# Altium schematic symbol library Atmel Microcontroller 8-Bit megaAVR.SchLib: 324 symbols (part 5 of 16)
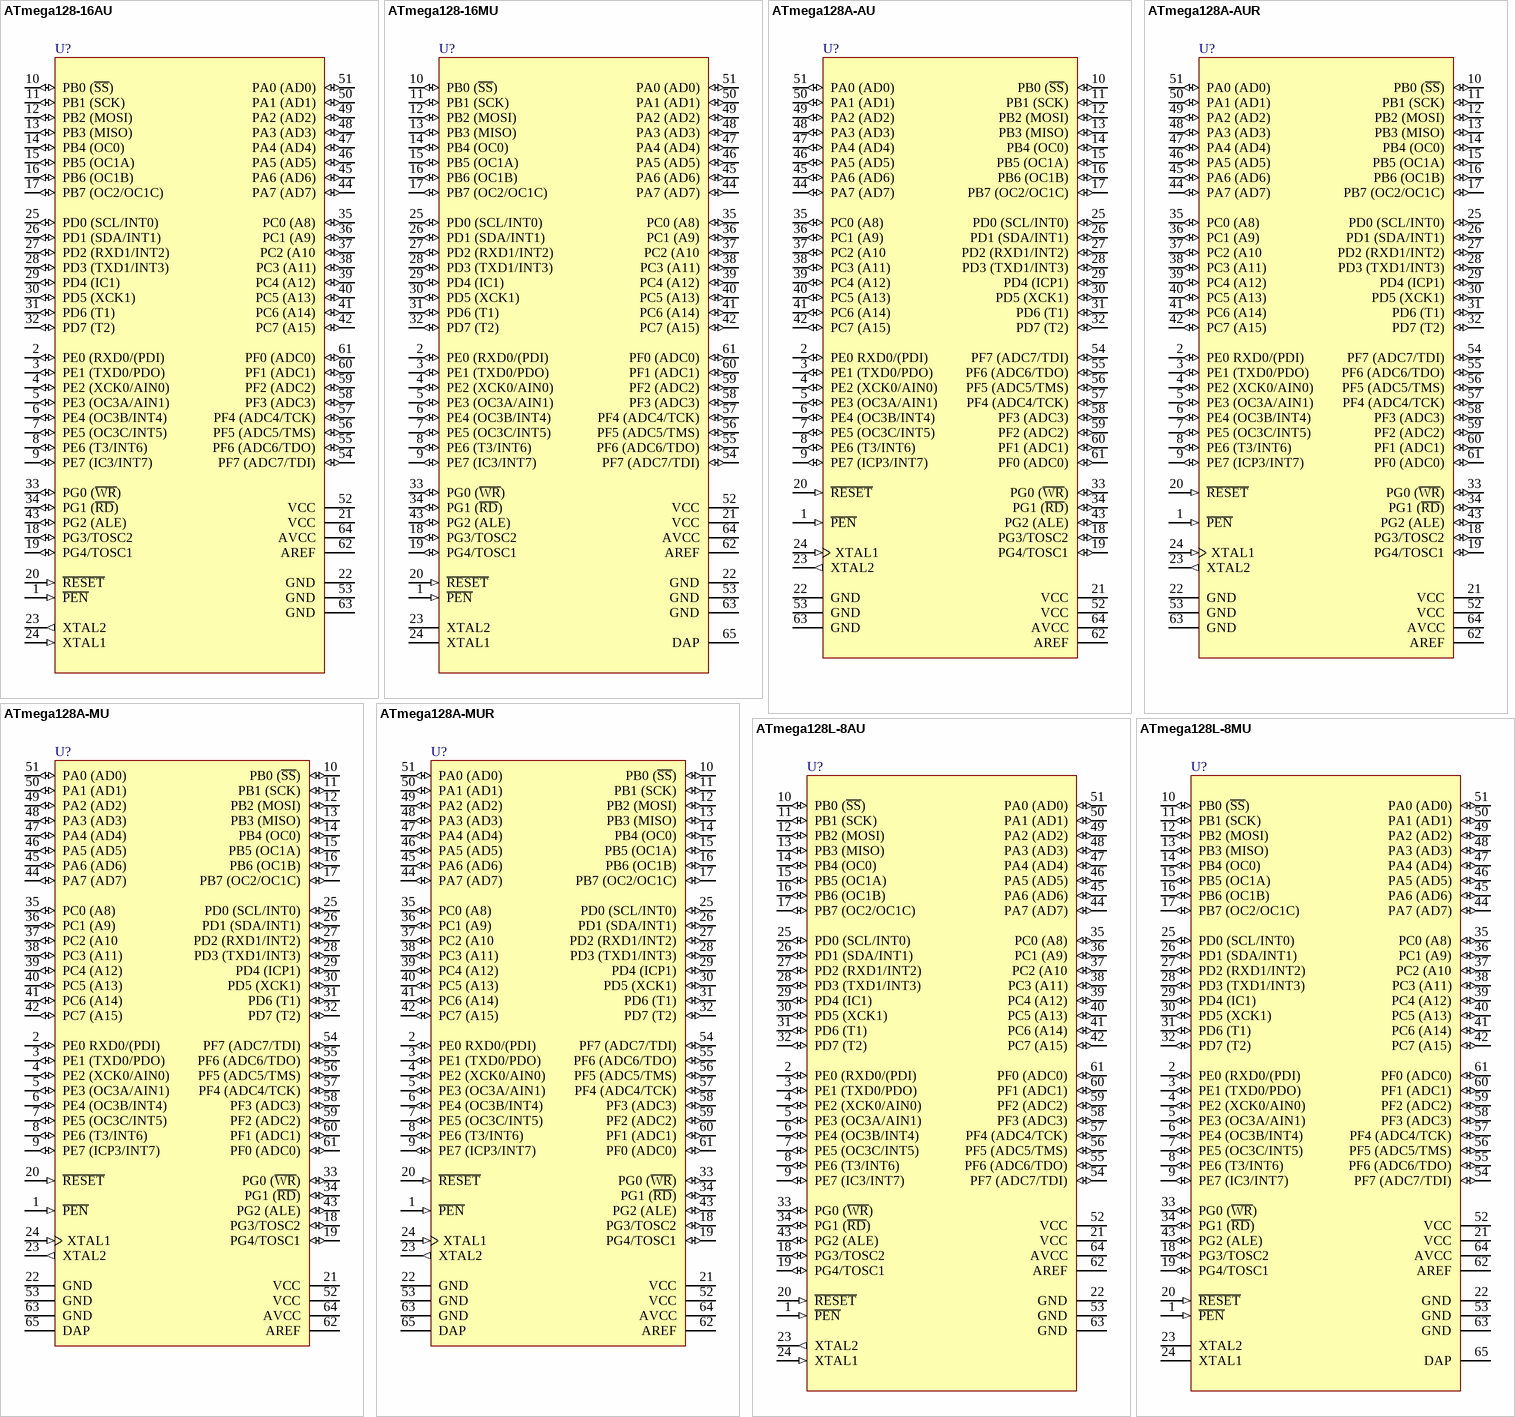
[diagram p46: symbols ATmega128-16AU to ATmega128L-8MU]

## ATmega128-16AU
designator U?
8-bit AVR Microcontroller, 4.5-5.5V, 128KB Flash, 4KB EEPROM, 4KB SRAM, 64-pin TQFP, Industrial Grade (-40°C to 85°C), Pb-Free; Published: 1-Apr-2010; DatasheetVersion: revS, Jul-2009; PackageVersion: revB, Oct-2001; PackageReference: 64A; Publisher: Altium Limited; PackageDescription: 64-Pin Plastic Thin Profile Quad Flat Pack, 14 x 14 x 1.0 mm Body, 0.8 mm Pitch (TQFP); Supplier 1: Digi-Key; Supplier Part Number 1: ATMEGA128-16AU-ND; Supplier 2: Farnell; Supplier Part Number 2: 9171118; Supplier 3: Farnell; Supplier Part Number 3: 1661737; Supplier 4: Mouser; Supplier Part Number 4: 556-ATMEGA128-16AU; Code_JEDEC: MS-026-AEB; ComponentLink1Description: Manufacturer Link; ComponentLink1URL: http://www.atmel.com/products/avr/default.asp?; ComponentLink2Description: ATmega128(L) Datasheet; ComponentLink2URL: http://www.atmel.com/dyn/resources/prod_documents/doc2467.pdf; ComponentLink3Description: ATmega128(L) Summary; ComponentLink3URL: http://www.atmel.com/dyn/resources/prod_documents/2467S.pdf; ComponentLink4Description: Atmel.com Home; ComponentLink4URL: http://www.atmel.com
footprint 64A_N (Thin QFP, 64-Leads, Body 14x14mm, Pitch 0.8mm, IPC Medium Density)
footprint 64A_L (Thin QFP, 64-Leads, Body 14x14mm, Pitch 0.8mm, IPC High Density)
footprint 64A_M (Thin QFP, 64-Leads, Body 14x14mm, Pitch 0.8mm, IPC Low Density)
pins: 1 ~{PEN} (in), 2 PE0 (RXD0/(PDI) (io), 3 PE1 (TXD0/PDO) (io), 4 PE2 (XCK0/AIN0) (io), 5 PE3 (OC3A/AIN1) (io), 6 PE4 (OC3B/INT4) (io), 7 PE5 (OC3C/INT5) (io), 8 PE6 (T3/INT6) (io), 9 PE7 (IC3/INT7) (io), 10 PB0 (~{SS}) (io), 11 PB1 (SCK) (io), 12 PB2 (MOSI) (io), 13 PB3 (MISO) (io), 14 PB4 (OC0) (io), 15 PB5 (OC1A) (io), 16 PB6 (OC1B) (io), 17 PB7 (OC2/OC1C) (io), 18 PG3/TOSC2 (io), 19 PG4/TOSC1 (io), 20 ~{RESET} (in), 21 VCC (power), 22 GND (power), 23 XTAL2 (out), 24 XTAL1 (in), 25 PD0 (SCL/INT0) (io), 26 PD1 (SDA/INT1) (io), 27 PD2 (RXD1/INT2) (io), 28 PD3 (TXD1/INT3) (io), 29 PD4 (IC1) (io), 30 PD5 (XCK1) (io), 31 PD6 (T1) (io), 32 PD7 (T2) (io), 33 PG0 (~{WR}) (io), 34 PG1 (~{RD}) (io), 35 PC0 (A8) (io), 36 PC1 (A9) (io), 37 PC2 (A10 (io), 38 PC3 (A11) (io), 39 PC4 (A12) (io), 40 PC5 (A13) (io), 41 PC6 (A14) (io), 42 PC7 (A15) (io), 43 PG2 (ALE) (io), 44 PA7 (AD7) (io), 45 PA6 (AD6) (io), 46 PA5 (AD5) (io), 47 PA4 (AD4) (io), 48 PA3 (AD3) (io), 49 PA2 (AD2) (io), 50 PA1 (AD1) (io), 51 PA0 (AD0) (io), 52 VCC (power), 53 GND (power), 54 PF7 (ADC7/TDI) (io), 55 PF6 (ADC6/TDO) (io), 56 PF5 (ADC5/TMS) (io), 57 PF4 (ADC4/TCK) (io), 58 PF3 (ADC3) (io), 59 PF2 (ADC2) (io), 60 PF1 (ADC1) (io), 61 PF0 (ADC0) (io), 62 AREF, 63 GND (power), 64 AVCC (power)

## ATmega128-16MU
designator U?
8-bit AVR Microcontroller, 4.5-5.5V, 128KB Flash, 4KB EEPROM, 4KB SRAM, 64-pin MLF, Industrial Grade (-40°C to 85°C), Pb-Free; Published: 1-Apr-2010; DatasheetVersion: revS, Jul-2009; PackageVersion: revG, May-2006; PackageReference: 64M1; Publisher: Altium Limited; PackageDescription: 64-Pin Micro Lead Frame Package (MLF), 9 x 9 x 1.0 mm Body, 0.5 mm Pitch, 5.40 mm Exposed Pad; Supplier 1: Digi-Key; Supplier Part Number 1: ATMEGA128-16MU-ND; Supplier 2: Farnell; Supplier Part Number 2: 1455093; Supplier 3: Mouser; Supplier Part Number 3: 556-ATMEGA128-16MU; Code_JEDEC: MO-220-VMMD; ComponentLink1Description: Manufacturer Link; ComponentLink1URL: http://www.atmel.com/products/avr/default.asp?; ComponentLink2Description: ATmega128(L) Datasheet; ComponentLink2URL: http://www.atmel.com/dyn/resources/prod_documents/doc2467.pdf; ComponentLink3Description: ATmega128(L) Summary; ComponentLink3URL: http://www.atmel.com/dyn/resources/prod_documents/2467S.pdf; ComponentLink4Description: Atmel.com Home; ComponentLink4URL: http://www.atmel.com
footprint 64M1_N (QFN, 64-Leads, Body 9x9mm, Pitch 0.5mm, IPC Medium Density)
footprint 64M1_L (QFN, 64-Leads, Body 9x9mm, Pitch 0.5mm, IPC High Density)
footprint 64M1_M (QFN, 64-Leads, Body 9x9mm, Pitch 0.5mm, IPC Low Density)
pins: 1 ~{PEN} (in), 2 PE0 (RXD0/(PDI) (io), 3 PE1 (TXD0/PDO) (io), 4 PE2 (XCK0/AIN0) (io), 5 PE3 (OC3A/AIN1) (io), 6 PE4 (OC3B/INT4) (io), 7 PE5 (OC3C/INT5) (io), 8 PE6 (T3/INT6) (io), 9 PE7 (IC3/INT7) (io), 10 PB0 (~{SS}) (io), 11 PB1 (SCK) (io), 12 PB2 (MOSI) (io), 13 PB3 (MISO) (io), 14 PB4 (OC0) (io), 15 PB5 (OC1A) (io), 16 PB6 (OC1B) (io), 17 PB7 (OC2/OC1C) (io), 18 PG3/TOSC2 (io), 19 PG4/TOSC1 (io), 20 ~{RESET} (in), 21 VCC (power), 22 GND (power), 23 XTAL2, 24 XTAL1, 25 PD0 (SCL/INT0) (io), 26 PD1 (SDA/INT1) (io), 27 PD2 (RXD1/INT2) (io), 28 PD3 (TXD1/INT3) (io), 29 PD4 (IC1) (io), 30 PD5 (XCK1) (io), 31 PD6 (T1) (io), 32 PD7 (T2) (io), 33 PG0 (~{WR}) (io), 34 PG1 (~{RD}) (io), 35 PC0 (A8) (io), 36 PC1 (A9) (io), 37 PC2 (A10 (io), 38 PC3 (A11) (io), 39 PC4 (A12) (io), 40 PC5 (A13) (io), 41 PC6 (A14) (io), 42 PC7 (A15) (io), 43 PG2 (ALE) (io), 44 PA7 (AD7) (io), 45 PA6 (AD6) (io), 46 PA5 (AD5) (io), 47 PA4 (AD4) (io), 48 PA3 (AD3) (io), 49 PA2 (AD2) (io), 50 PA1 (AD1) (io), 51 PA0 (AD0) (io), 52 VCC (power), 53 GND (power), 54 PF7 (ADC7/TDI) (io), 55 PF6 (ADC6/TDO) (io), 56 PF5 (ADC5/TMS) (io), 57 PF4 (ADC4/TCK) (io), 58 PF3 (ADC3) (io), 59 PF2 (ADC2) (io), 60 PF1 (ADC1) (io), 61 PF0 (ADC0) (io), 62 AREF, 63 GND (power), 64 AVCC (power), 65 DAP (power)

## ATmega128A-AU
designator U?
8-bit AVR Microcontroller, 128KB Flash, 4KB EEPROM, 4KB SRAM, 64-pin TQFP, Industrial Grade (-40°C to 85°C); Published: 1-Apr-2010; DatasheetVersion: revE, Feb-2010; PackageVersion: revB, Oct-2001; PackageReference: 64A; Publisher: Altium Limited; PackageDescription: 64-Pin Plastic Thin Profile Quad Flat Pack, 14 x 14 x 1.0 mm Body, 0.8 mm Pitch (TQFP); Supplier 1: Digi-Key; Supplier Part Number 1: ATMEGA128A-AU-ND; Supplier 2: Farnell; Supplier Part Number 2: 1773397; Supplier 3: Mouser; Supplier Part Number 3: 556-ATMEGA128A-AU; Code_JEDEC: MS-026-AEB; ComponentLink1Description: Manufacturer Link; ComponentLink1URL: http://www.atmel.com/products/avr/default.asp?; ComponentLink2Description: ATmega128A Datasheet; ComponentLink2URL: http://www.atmel.com/dyn/resources/prod_documents/doc8151.pdf; ComponentLink3Description: ATmega128A Summary; ComponentLink3URL: http://www.atmel.com/dyn/resources/prod_documents/8151S.pdf; ComponentLink4Description: Atmel.com Home; ComponentLink4URL: http://www.atmel.com
footprint 64A_N (Thin QFP, 64-Leads, Body 14x14mm, Pitch 0.8mm, IPC Medium Density)
footprint 64A_L (Thin QFP, 64-Leads, Body 14x14mm, Pitch 0.8mm, IPC High Density)
footprint 64A_M (Thin QFP, 64-Leads, Body 14x14mm, Pitch 0.8mm, IPC Low Density)
pins: 1 ~{PEN} (in), 2 PE0 RXD0/(PDI) (io), 3 PE1 (TXD0/PDO) (io), 4 PE2 (XCK0/AIN0) (io), 5 PE3 (OC3A/AIN1) (io), 6 PE4 (OC3B/INT4) (io), 7 PE5 (OC3C/INT5) (io), 8 PE6 (T3/INT6) (io), 9 PE7 (ICP3/INT7) (io), 10 PB0 (~{SS}) (io), 11 PB1 (SCK) (io), 12 PB2 (MOSI) (io), 13 PB3 (MISO) (io), 14 PB4 (OC0) (io), 15 PB5 (OC1A) (io), 16 PB6 (OC1B) (io), 17 PB7 (OC2/OC1C) (io), 18 PG3/TOSC2 (io), 19 PG4/TOSC1 (io), 20 ~{RESET} (in), 21 VCC (power), 22 GND (power), 23 XTAL2 (out), 24 XTAL1 (in), 25 PD0 (SCL/INT0) (io), 26 PD1 (SDA/INT1) (io), 27 PD2 (RXD1/INT2) (io), 28 PD3 (TXD1/INT3) (io), 29 PD4 (ICP1) (io), 30 PD5 (XCK1) (io), 31 PD6 (T1) (io), 32 PD7 (T2) (io), 33 PG0 (~{WR}) (io), 34 PG1 (~{RD}) (io), 35 PC0 (A8) (io), 36 PC1 (A9) (io), 37 PC2 (A10 (io), 38 PC3 (A11) (io), 39 PC4 (A12) (io), 40 PC5 (A13) (io), 41 PC6 (A14) (io), 42 PC7 (A15) (io), 43 PG2 (ALE) (io), 44 PA7 (AD7) (io), 45 PA6 (AD6) (io), 46 PA5 (AD5) (io), 47 PA4 (AD4) (io), 48 PA3 (AD3) (io), 49 PA2 (AD2) (io), 50 PA1 (AD1) (io), 51 PA0 (AD0) (io), 52 VCC (power), 53 GND (power), 54 PF7 (ADC7/TDI) (io), 55 PF6 (ADC6/TDO) (io), 56 PF5 (ADC5/TMS) (io), 57 PF4 (ADC4/TCK) (io), 58 PF3 (ADC3) (io), 59 PF2 (ADC2) (io), 60 PF1 (ADC1) (io), 61 PF0 (ADC0) (io), 62 AREF (power), 63 GND (power), 64 AVCC (power)

## ATmega128A-AUR
designator U?
8-bit AVR Microcontroller, 128KB Flash, 4KB EEPROM, 4KB SRAM, 64-pin TQFP, Industrial Grade (-40°C to 85°C), Reel; Published: 1-Apr-2010; DatasheetVersion: revE, Feb-2010; PackageVersion: revB, Oct-2001; PackageReference: 64A; Publisher: Altium Limited; PackageDescription: 64-Pin Plastic Thin Profile Quad Flat Pack, 14 x 14 x 1.0 mm Body, 0.8 mm Pitch (TQFP); Supplier 1: Digi-Key; Supplier Part Number 1: ATMEGA128A-AUR-ND; Supplier 2: Mouser; Supplier Part Number 2: 556-ATMEGA128A-AUR; Code_JEDEC: MS-026-AEB; ComponentLink1Description: Manufacturer Link; ComponentLink1URL: http://www.atmel.com/products/avr/default.asp?; ComponentLink2Description: ATmega128A Datasheet; ComponentLink2URL: http://www.atmel.com/dyn/resources/prod_documents/doc8151.pdf; ComponentLink3Description: ATmega128A Summary; ComponentLink3URL: http://www.atmel.com/dyn/resources/prod_documents/8151S.pdf; ComponentLink4Description: Atmel.com Home; ComponentLink4URL: http://www.atmel.com
footprint 64A_N (Thin QFP, 64-Leads, Body 14x14mm, Pitch 0.8mm, IPC Medium Density)
footprint 64A_L (Thin QFP, 64-Leads, Body 14x14mm, Pitch 0.8mm, IPC High Density)
footprint 64A_M (Thin QFP, 64-Leads, Body 14x14mm, Pitch 0.8mm, IPC Low Density)
pins: 1 ~{PEN} (in), 2 PE0 RXD0/(PDI) (io), 3 PE1 (TXD0/PDO) (io), 4 PE2 (XCK0/AIN0) (io), 5 PE3 (OC3A/AIN1) (io), 6 PE4 (OC3B/INT4) (io), 7 PE5 (OC3C/INT5) (io), 8 PE6 (T3/INT6) (io), 9 PE7 (ICP3/INT7) (io), 10 PB0 (~{SS}) (io), 11 PB1 (SCK) (io), 12 PB2 (MOSI) (io), 13 PB3 (MISO) (io), 14 PB4 (OC0) (io), 15 PB5 (OC1A) (io), 16 PB6 (OC1B) (io), 17 PB7 (OC2/OC1C) (io), 18 PG3/TOSC2 (io), 19 PG4/TOSC1 (io), 20 ~{RESET} (in), 21 VCC (power), 22 GND (power), 23 XTAL2 (out), 24 XTAL1 (in), 25 PD0 (SCL/INT0) (io), 26 PD1 (SDA/INT1) (io), 27 PD2 (RXD1/INT2) (io), 28 PD3 (TXD1/INT3) (io), 29 PD4 (ICP1) (io), 30 PD5 (XCK1) (io), 31 PD6 (T1) (io), 32 PD7 (T2) (io), 33 PG0 (~{WR}) (io), 34 PG1 (~{RD}) (io), 35 PC0 (A8) (io), 36 PC1 (A9) (io), 37 PC2 (A10 (io), 38 PC3 (A11) (io), 39 PC4 (A12) (io), 40 PC5 (A13) (io), 41 PC6 (A14) (io), 42 PC7 (A15) (io), 43 PG2 (ALE) (io), 44 PA7 (AD7) (io), 45 PA6 (AD6) (io), 46 PA5 (AD5) (io), 47 PA4 (AD4) (io), 48 PA3 (AD3) (io), 49 PA2 (AD2) (io), 50 PA1 (AD1) (io), 51 PA0 (AD0) (io), 52 VCC (power), 53 GND (power), 54 PF7 (ADC7/TDI) (io), 55 PF6 (ADC6/TDO) (io), 56 PF5 (ADC5/TMS) (io), 57 PF4 (ADC4/TCK) (io), 58 PF3 (ADC3) (io), 59 PF2 (ADC2) (io), 60 PF1 (ADC1) (io), 61 PF0 (ADC0) (io), 62 AREF (power), 63 GND (power), 64 AVCC (power)

## ATmega128A-MU
designator U?
8-bit AVR Microcontroller, 128KB Flash, 4KB EEPROM, 4KB SRAM, 64-pin MLF, Industrial Grade (-40°C to 85°C); Published: 1-Apr-2010; DatasheetVersion: revE, Feb-2010; PackageVersion: revG, May-2006; PackageReference: 64M1; Publisher: Altium Limited; PackageDescription: 64-Pin Micro Lead Frame Package (MLF), 9 x 9 x 1.0 mm Body, 0.5 mm Pitch, 5.40 mm Exposed Pad; Supplier 1: Digi-Key; Supplier Part Number 1: ATMEGA128A-MU-ND; Supplier 2: Farnell; Supplier Part Number 2: 1773398; Supplier 3: Mouser; Supplier Part Number 3: 556-ATMEGA128A-MU; Code_JEDEC: MO-220-VMMD; ComponentLink1Description: Manufacturer Link; ComponentLink1URL: http://www.atmel.com/products/avr/default.asp?; ComponentLink2Description: ATmega128A Datasheet; ComponentLink2URL: http://www.atmel.com/dyn/resources/prod_documents/doc8151.pdf; ComponentLink3Description: ATmega128A Summary; ComponentLink3URL: http://www.atmel.com/dyn/resources/prod_documents/8151S.pdf; ComponentLink4Description: Atmel.com Home; ComponentLink4URL: http://www.atmel.com
footprint 64M1_N (QFN, 64-Leads, Body 9x9mm, Pitch 0.5mm, IPC Medium Density)
footprint 64M1_L (QFN, 64-Leads, Body 9x9mm, Pitch 0.5mm, IPC High Density)
footprint 64M1_M (QFN, 64-Leads, Body 9x9mm, Pitch 0.5mm, IPC Low Density)
pins: 1 ~{PEN} (in), 2 PE0 RXD0/(PDI) (io), 3 PE1 (TXD0/PDO) (io), 4 PE2 (XCK0/AIN0) (io), 5 PE3 (OC3A/AIN1) (io), 6 PE4 (OC3B/INT4) (io), 7 PE5 (OC3C/INT5) (io), 8 PE6 (T3/INT6) (io), 9 PE7 (ICP3/INT7) (io), 10 PB0 (~{SS}) (io), 11 PB1 (SCK) (io), 12 PB2 (MOSI) (io), 13 PB3 (MISO) (io), 14 PB4 (OC0) (io), 15 PB5 (OC1A) (io), 16 PB6 (OC1B) (io), 17 PB7 (OC2/OC1C) (io), 18 PG3/TOSC2 (io), 19 PG4/TOSC1 (io), 20 ~{RESET} (in), 21 VCC (power), 22 GND (power), 23 XTAL2 (out), 24 XTAL1 (in), 25 PD0 (SCL/INT0) (io), 26 PD1 (SDA/INT1) (io), 27 PD2 (RXD1/INT2) (io), 28 PD3 (TXD1/INT3) (io), 29 PD4 (ICP1) (io), 30 PD5 (XCK1) (io), 31 PD6 (T1) (io), 32 PD7 (T2) (io), 33 PG0 (~{WR}) (io), 34 PG1 (~{RD}) (io), 35 PC0 (A8) (io), 36 PC1 (A9) (io), 37 PC2 (A10 (io), 38 PC3 (A11) (io), 39 PC4 (A12) (io), 40 PC5 (A13) (io), 41 PC6 (A14) (io), 42 PC7 (A15) (io), 43 PG2 (ALE) (io), 44 PA7 (AD7) (io), 45 PA6 (AD6) (io), 46 PA5 (AD5) (io), 47 PA4 (AD4) (io), 48 PA3 (AD3) (io), 49 PA2 (AD2) (io), 50 PA1 (AD1) (io), 51 PA0 (AD0) (io), 52 VCC (power), 53 GND (power), 54 PF7 (ADC7/TDI) (io), 55 PF6 (ADC6/TDO) (io), 56 PF5 (ADC5/TMS) (io), 57 PF4 (ADC4/TCK) (io), 58 PF3 (ADC3) (io), 59 PF2 (ADC2) (io), 60 PF1 (ADC1) (io), 61 PF0 (ADC0) (io), 62 AREF (power), 63 GND (power), 64 AVCC (power), 65 DAP

## ATmega128A-MUR
designator U?
8-bit AVR Microcontroller, 128KB Flash, 4KB EEPROM, 4KB SRAM, 64-pin MLF, Industrial Grade (-40°C to 85°C), Reel; Published: 1-Apr-2010; DatasheetVersion: revE, Feb-2010; PackageVersion: revG, May-2006; PackageReference: 64M1; Publisher: Altium Limited; PackageDescription: 64-Pin Micro Lead Frame Package (MLF), 9 x 9 x 1.0 mm Body, 0.5 mm Pitch, 5.40 mm Exposed Pad; Supplier 1: Digi-Key; Supplier Part Number 1: ATMEGA128A-MUR-ND; Supplier 2: Mouser; Supplier Part Number 2: 556-ATMEGA128A-MUR; Code_JEDEC: MO-220-VMMD; ComponentLink1Description: Manufacturer Link; ComponentLink1URL: http://www.atmel.com/products/avr/default.asp?; ComponentLink2Description: ATmega128A Datasheet; ComponentLink2URL: http://www.atmel.com/dyn/resources/prod_documents/doc8151.pdf; ComponentLink3Description: ATmega128A Summary; ComponentLink3URL: http://www.atmel.com/dyn/resources/prod_documents/8151S.pdf; ComponentLink4Description: Atmel.com Home; ComponentLink4URL: http://www.atmel.com
footprint 64M1_N (QFN, 64-Leads, Body 9x9mm, Pitch 0.5mm, IPC Medium Density)
footprint 64M1_L (QFN, 64-Leads, Body 9x9mm, Pitch 0.5mm, IPC High Density)
footprint 64M1_M (QFN, 64-Leads, Body 9x9mm, Pitch 0.5mm, IPC Low Density)
pins: 1 ~{PEN} (in), 2 PE0 RXD0/(PDI) (io), 3 PE1 (TXD0/PDO) (io), 4 PE2 (XCK0/AIN0) (io), 5 PE3 (OC3A/AIN1) (io), 6 PE4 (OC3B/INT4) (io), 7 PE5 (OC3C/INT5) (io), 8 PE6 (T3/INT6) (io), 9 PE7 (ICP3/INT7) (io), 10 PB0 (~{SS}) (io), 11 PB1 (SCK) (io), 12 PB2 (MOSI) (io), 13 PB3 (MISO) (io), 14 PB4 (OC0) (io), 15 PB5 (OC1A) (io), 16 PB6 (OC1B) (io), 17 PB7 (OC2/OC1C) (io), 18 PG3/TOSC2 (io), 19 PG4/TOSC1 (io), 20 ~{RESET} (in), 21 VCC (power), 22 GND (power), 23 XTAL2 (out), 24 XTAL1 (in), 25 PD0 (SCL/INT0) (io), 26 PD1 (SDA/INT1) (io), 27 PD2 (RXD1/INT2) (io), 28 PD3 (TXD1/INT3) (io), 29 PD4 (ICP1) (io), 30 PD5 (XCK1) (io), 31 PD6 (T1) (io), 32 PD7 (T2) (io), 33 PG0 (~{WR}) (io), 34 PG1 (~{RD}) (io), 35 PC0 (A8) (io), 36 PC1 (A9) (io), 37 PC2 (A10 (io), 38 PC3 (A11) (io), 39 PC4 (A12) (io), 40 PC5 (A13) (io), 41 PC6 (A14) (io), 42 PC7 (A15) (io), 43 PG2 (ALE) (io), 44 PA7 (AD7) (io), 45 PA6 (AD6) (io), 46 PA5 (AD5) (io), 47 PA4 (AD4) (io), 48 PA3 (AD3) (io), 49 PA2 (AD2) (io), 50 PA1 (AD1) (io), 51 PA0 (AD0) (io), 52 VCC (power), 53 GND (power), 54 PF7 (ADC7/TDI) (io), 55 PF6 (ADC6/TDO) (io), 56 PF5 (ADC5/TMS) (io), 57 PF4 (ADC4/TCK) (io), 58 PF3 (ADC3) (io), 59 PF2 (ADC2) (io), 60 PF1 (ADC1) (io), 61 PF0 (ADC0) (io), 62 AREF (power), 63 GND (power), 64 AVCC (power), 65 DAP

## ATmega128L-8AU
designator U?
8-bit AVR Microcontroller, 2.7-5.5V, 128KB Flash, 4KB EEPROM, 4KB SRAM, 64-pin TQFP, Industrial Grade (-40°C to 85°C), Pb-Free; Published: 1-Apr-2010; DatasheetVersion: revS, Jul-2009; PackageVersion: revB, Oct-2001; PackageReference: 64A; Publisher: Altium Limited; PackageDescription: 64-Pin Plastic Thin Profile Quad Flat Pack, 14 x 14 x 1.0 mm Body, 0.8 mm Pitch (TQFP); Supplier 1: Digi-Key; Supplier Part Number 1: ATMEGA128L-8AU-ND; Supplier 2: Farnell; Supplier Part Number 2: 9171126; Supplier 3: Farnell; Supplier Part Number 3: 1661739; Supplier 4: Mouser; Supplier Part Number 4: 556-ATMEGA128L-8AU; Code_JEDEC: MS-026-AEB; ComponentLink1Description: Manufacturer Link; ComponentLink1URL: http://www.atmel.com/products/avr/default.asp?; ComponentLink2Description: ATmega128(L) Datasheet; ComponentLink2URL: http://www.atmel.com/dyn/resources/prod_documents/doc2467.pdf; ComponentLink3Description: ATmega128(L) Summary; ComponentLink3URL: http://www.atmel.com/dyn/resources/prod_documents/2467S.pdf; ComponentLink4Description: Atmel.com Home; ComponentLink4URL: http://www.atmel.com
footprint 64A_N (Thin QFP, 64-Leads, Body 14x14mm, Pitch 0.8mm, IPC Medium Density)
footprint 64A_L (Thin QFP, 64-Leads, Body 14x14mm, Pitch 0.8mm, IPC High Density)
footprint 64A_M (Thin QFP, 64-Leads, Body 14x14mm, Pitch 0.8mm, IPC Low Density)
pins: 1 ~{PEN} (in), 2 PE0 (RXD0/(PDI) (io), 3 PE1 (TXD0/PDO) (io), 4 PE2 (XCK0/AIN0) (io), 5 PE3 (OC3A/AIN1) (io), 6 PE4 (OC3B/INT4) (io), 7 PE5 (OC3C/INT5) (io), 8 PE6 (T3/INT6) (io), 9 PE7 (IC3/INT7) (io), 10 PB0 (~{SS}) (io), 11 PB1 (SCK) (io), 12 PB2 (MOSI) (io), 13 PB3 (MISO) (io), 14 PB4 (OC0) (io), 15 PB5 (OC1A) (io), 16 PB6 (OC1B) (io), 17 PB7 (OC2/OC1C) (io), 18 PG3/TOSC2 (io), 19 PG4/TOSC1 (io), 20 ~{RESET} (in), 21 VCC (power), 22 GND (power), 23 XTAL2 (out), 24 XTAL1 (in), 25 PD0 (SCL/INT0) (io), 26 PD1 (SDA/INT1) (io), 27 PD2 (RXD1/INT2) (io), 28 PD3 (TXD1/INT3) (io), 29 PD4 (IC1) (io), 30 PD5 (XCK1) (io), 31 PD6 (T1) (io), 32 PD7 (T2) (io), 33 PG0 (~{WR}) (io), 34 PG1 (~{RD}) (io), 35 PC0 (A8) (io), 36 PC1 (A9) (io), 37 PC2 (A10 (io), 38 PC3 (A11) (io), 39 PC4 (A12) (io), 40 PC5 (A13) (io), 41 PC6 (A14) (io), 42 PC7 (A15) (io), 43 PG2 (ALE) (io), 44 PA7 (AD7) (io), 45 PA6 (AD6) (io), 46 PA5 (AD5) (io), 47 PA4 (AD4) (io), 48 PA3 (AD3) (io), 49 PA2 (AD2) (io), 50 PA1 (AD1) (io), 51 PA0 (AD0) (io), 52 VCC (power), 53 GND (power), 54 PF7 (ADC7/TDI) (io), 55 PF6 (ADC6/TDO) (io), 56 PF5 (ADC5/TMS) (io), 57 PF4 (ADC4/TCK) (io), 58 PF3 (ADC3) (io), 59 PF2 (ADC2) (io), 60 PF1 (ADC1) (io), 61 PF0 (ADC0) (io), 62 AREF, 63 GND (power), 64 AVCC (power)

## ATmega128L-8MU
designator U?
8-bit AVR Microcontroller, 2.7-5.5V, 128KB Flash, 4KB EEPROM, 4KB SRAM, 64-pin MLF, Industrial Grade (-40°C to 85°C), Pb-Free; Published: 1-Apr-2010; DatasheetVersion: revS, Jul-2009; PackageVersion: revG, May-2006; PackageReference: 64M1; Publisher: Altium Limited; PackageDescription: 64-Pin Micro Lead Frame Package (MLF), 9 x 9 x 1.0 mm Body, 0.5 mm Pitch, 5.40 mm Exposed Pad; Supplier 1: Digi-Key; Supplier Part Number 1: ATMEGA128L-8MU-ND; Supplier 2: Farnell; Supplier Part Number 2: 1455095; Supplier 3: Mouser; Supplier Part Number 3: 556-ATMEGA128L-8MU; Code_JEDEC: MO-220-VMMD; ComponentLink1Description: Manufacturer Link; ComponentLink1URL: http://www.atmel.com/products/avr/default.asp?; ComponentLink2Description: ATmega128(L) Datasheet; ComponentLink2URL: http://www.atmel.com/dyn/resources/prod_documents/doc2467.pdf; ComponentLink3Description: ATmega128(L) Summary; ComponentLink3URL: http://www.atmel.com/dyn/resources/prod_documents/2467S.pdf; ComponentLink4Description: Atmel.com Home; ComponentLink4URL: http://www.atmel.com
footprint 64M1_N (QFN, 64-Leads, Body 9x9mm, Pitch 0.5mm, IPC Medium Density)
footprint 64M1_L (QFN, 64-Leads, Body 9x9mm, Pitch 0.5mm, IPC High Density)
footprint 64M1_M (QFN, 64-Leads, Body 9x9mm, Pitch 0.5mm, IPC Low Density)
pins: 1 ~{PEN} (in), 2 PE0 (RXD0/(PDI) (io), 3 PE1 (TXD0/PDO) (io), 4 PE2 (XCK0/AIN0) (io), 5 PE3 (OC3A/AIN1) (io), 6 PE4 (OC3B/INT4) (io), 7 PE5 (OC3C/INT5) (io), 8 PE6 (T3/INT6) (io), 9 PE7 (IC3/INT7) (io), 10 PB0 (~{SS}) (io), 11 PB1 (SCK) (io), 12 PB2 (MOSI) (io), 13 PB3 (MISO) (io), 14 PB4 (OC0) (io), 15 PB5 (OC1A) (io), 16 PB6 (OC1B) (io), 17 PB7 (OC2/OC1C) (io), 18 PG3/TOSC2 (io), 19 PG4/TOSC1 (io), 20 ~{RESET} (in), 21 VCC (power), 22 GND (power), 23 XTAL2, 24 XTAL1, 25 PD0 (SCL/INT0) (io), 26 PD1 (SDA/INT1) (io), 27 PD2 (RXD1/INT2) (io), 28 PD3 (TXD1/INT3) (io), 29 PD4 (IC1) (io), 30 PD5 (XCK1) (io), 31 PD6 (T1) (io), 32 PD7 (T2) (io), 33 PG0 (~{WR}) (io), 34 PG1 (~{RD}) (io), 35 PC0 (A8) (io), 36 PC1 (A9) (io), 37 PC2 (A10 (io), 38 PC3 (A11) (io), 39 PC4 (A12) (io), 40 PC5 (A13) (io), 41 PC6 (A14) (io), 42 PC7 (A15) (io), 43 PG2 (ALE) (io), 44 PA7 (AD7) (io), 45 PA6 (AD6) (io), 46 PA5 (AD5) (io), 47 PA4 (AD4) (io), 48 PA3 (AD3) (io), 49 PA2 (AD2) (io), 50 PA1 (AD1) (io), 51 PA0 (AD0) (io), 52 VCC (power), 53 GND (power), 54 PF7 (ADC7/TDI) (io), 55 PF6 (ADC6/TDO) (io), 56 PF5 (ADC5/TMS) (io), 57 PF4 (ADC4/TCK) (io), 58 PF3 (ADC3) (io), 59 PF2 (ADC2) (io), 60 PF1 (ADC1) (io), 61 PF0 (ADC0) (io), 62 AREF, 63 GND (power), 64 AVCC (power), 65 DAP (power)

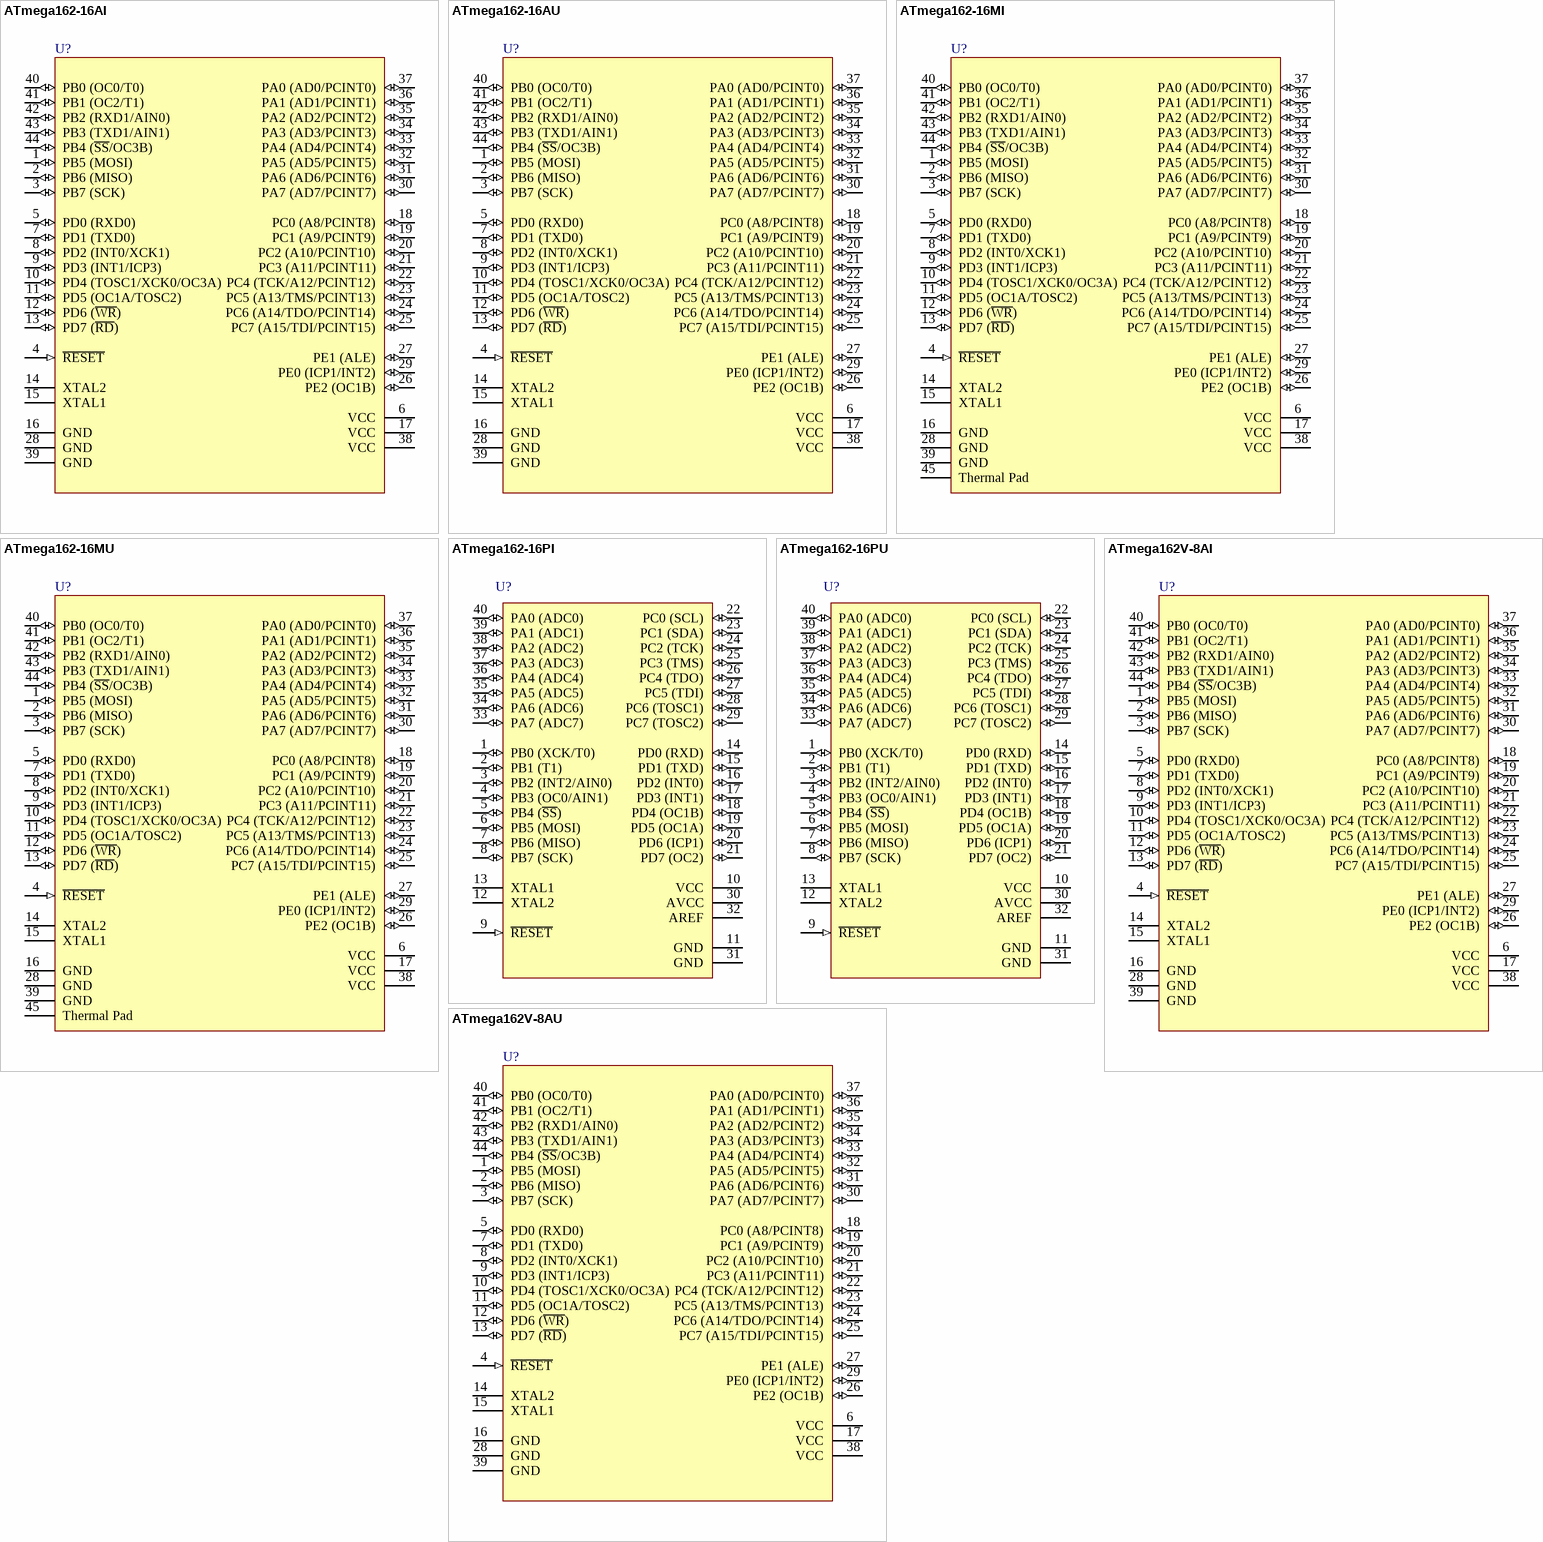
[diagram p11: symbols ATmega162-16AI to ATmega162V-8AU]

## ATmega162-16AI
designator U?
8-bit AVR Microcontroller, 16KB Flash, 512 Bytes EEPROM, 1KB SRAM, 44-pin TQFP, Industrial Grade (-40°C to 85°C); Published: 17-Sep-2003; DatasheetVersion: revK, Jul-2009; PackageVersion: rev.B, Oct-2001; PackageReference: 44A; Publisher: Altium Limited; PackageDescription: 44-Pin Plastic Thin Profile Quad Flat Pack, 10 x 10 x 1.0 mm Body, 0.8 mm Pitch (TQFP); Supplier 1: Digi-Key; Supplier Part Number 1: ATMEGA162-16AI-ND; Supplier 2: Mouser; Supplier Part Number 2: 556-ATMEGA162-16AI; ComponentLink1Description: Manufacturer Link; ComponentLink1URL: http://www.atmel.com/products/avr/default.asp?; ComponentLink2Description: ATmega162 (V)  Datasheet; ComponentLink2URL: http://www.atmel.com/dyn/resources/prod_documents/doc2513.pdf; ComponentLink3Description: ATmega162 (V) Summary; ComponentLink3URL: http://www.atmel.com/dyn/resources/prod_documents/2513S.pdf; ComponentLink4Description: Atmel.com Home; ComponentLink4URL: http://www.atmel.com
footprint 44A_N (Thin QFP, 44-Leads, Body 10x10mm, Pitch 0.8mm, IPC Medium Density)
footprint 44A_L (Thin QFP, 44-Leads, Body 10x10mm, Pitch 0.8mm, IPC High Density)
footprint 44A_M (Thin QFP, 44-Leads, Body 10x10mm, Pitch 0.8mm, IPC Low Density)
pins: 1 PB5 (MOSI) (io), 2 PB6 (MISO) (io), 3 PB7 (SCK) (io), 4 ~{RESET} (in), 5 PD0 (RXD0) (io), 6 VCC (power), 7 PD1 (TXD0) (io), 8 PD2 (INT0/XCK1) (io), 9 PD3 (INT1/ICP3) (io), 10 PD4 (TOSC1/XCK0/OC3A) (io), 11 PD5 (OC1A/TOSC2) (io), 12 PD6 (~{WR}) (io), 13 PD7 (~{RD}) (io), 14 XTAL2, 15 XTAL1, 16 GND (power), 17 VCC (power), 18 PC0 (A8/PCINT8) (io), 19 PC1 (A9/PCINT9) (io), 20 PC2 (A10/PCINT10) (io), 21 PC3 (A11/PCINT11) (io), 22 PC4 (TCK/A12/PCINT12) (io), 23 PC5 (A13/TMS/PCINT13) (io), 24 PC6 (A14/TDO/PCINT14) (io), 25 PC7 (A15/TDI/PCINT15) (io), 26 PE2 (OC1B) (io), 27 PE1 (ALE) (io), 28 GND (power), 29 PE0 (ICP1/INT2) (io), 30 PA7 (AD7/PCINT7) (io), 31 PA6 (AD6/PCINT6) (io), 32 PA5 (AD5/PCINT5) (io), 33 PA4 (AD4/PCINT4) (io), 34 PA3 (AD3/PCINT3) (io), 35 PA2 (AD2/PCINT2) (io), 36 PA1 (AD1/PCINT1) (io), 37 PA0 (AD0/PCINT0) (io), 38 VCC (power), 39 GND (power), 40 PB0 (OC0/T0) (io), 41 PB1 (OC2/T1) (io), 42 PB2 (RXD1/AIN0) (io), 43 PB3 (TXD1/AIN1) (io), 44 PB4 (~{SS}/OC3B) (io)

## ATmega162-16AU
designator U?
8-bit AVR Microcontroller, 16KB Flash, 512 Bytes EEPROM, 1KB SRAM, 44-pin TQFP, Industrial Grade (-40°C to 85°C); Published: 1-Apr-2010; DatasheetVersion: revK, Jul-2009; PackageVersion: rev.B, Oct-2001; PackageReference: 44A; Publisher: Altium Limited; PackageDescription: 44-Pin Plastic Thin Profile Quad Flat Pack, 10 x 10 x 1.0 mm Body, 0.8 mm Pitch (TQFP); Supplier 1: Digi-Key; Supplier Part Number 1: ATMEGA162-16AU-ND; Supplier 2: Farnell; Supplier Part Number 2: 9171150; Supplier 3: Farnell; Supplier Part Number 3: 1528423; Supplier 4: Mouser; Supplier Part Number 4: 556-ATMEGA162-16AU; ComponentLink1Description: Manufacturer Link; ComponentLink1URL: http://www.atmel.com/products/avr/default.asp?; ComponentLink2Description: ATmega162 (V)  Datasheet; ComponentLink2URL: http://www.atmel.com/dyn/resources/prod_documents/doc2513.pdf; ComponentLink3Description: ATmega162 (V) Summary; ComponentLink3URL: http://www.atmel.com/dyn/resources/prod_documents/2513S.pdf; ComponentLink4Description: Atmel.com Home; ComponentLink4URL: http://www.atmel.com
footprint 44A_N (Thin QFP, 44-Leads, Body 10x10mm, Pitch 0.8mm, IPC Medium Density)
footprint 44A_L (Thin QFP, 44-Leads, Body 10x10mm, Pitch 0.8mm, IPC High Density)
footprint 44A_M (Thin QFP, 44-Leads, Body 10x10mm, Pitch 0.8mm, IPC Low Density)
pins: 1 PB5 (MOSI) (io), 2 PB6 (MISO) (io), 3 PB7 (SCK) (io), 4 ~{RESET} (in), 5 PD0 (RXD0) (io), 6 VCC (power), 7 PD1 (TXD0) (io), 8 PD2 (INT0/XCK1) (io), 9 PD3 (INT1/ICP3) (io), 10 PD4 (TOSC1/XCK0/OC3A) (io), 11 PD5 (OC1A/TOSC2) (io), 12 PD6 (~{WR}) (io), 13 PD7 (~{RD}) (io), 14 XTAL2, 15 XTAL1, 16 GND (power), 17 VCC (power), 18 PC0 (A8/PCINT8) (io), 19 PC1 (A9/PCINT9) (io), 20 PC2 (A10/PCINT10) (io), 21 PC3 (A11/PCINT11) (io), 22 PC4 (TCK/A12/PCINT12) (io), 23 PC5 (A13/TMS/PCINT13) (io), 24 PC6 (A14/TDO/PCINT14) (io), 25 PC7 (A15/TDI/PCINT15) (io), 26 PE2 (OC1B) (io), 27 PE1 (ALE) (io), 28 GND (power), 29 PE0 (ICP1/INT2) (io), 30 PA7 (AD7/PCINT7) (io), 31 PA6 (AD6/PCINT6) (io), 32 PA5 (AD5/PCINT5) (io), 33 PA4 (AD4/PCINT4) (io), 34 PA3 (AD3/PCINT3) (io), 35 PA2 (AD2/PCINT2) (io), 36 PA1 (AD1/PCINT1) (io), 37 PA0 (AD0/PCINT0) (io), 38 VCC (power), 39 GND (power), 40 PB0 (OC0/T0) (io), 41 PB1 (OC2/T1) (io), 42 PB2 (RXD1/AIN0) (io), 43 PB3 (TXD1/AIN1) (io), 44 PB4 (~{SS}/OC3B) (io)

## ATmega162-16MI
designator U?
8-bit AVR Microcontroller, 16KB Flash, 512 Bytes EEPROM, 1KB SRAM, 44-pin VQFN, Industrial Grade (-40°C to 85°C); Published: 26-May-2004; DatasheetVersion: revK, Jul-2009; PackageVersion: revH, Sep-2008; PackageReference: 44M1; Publisher: Altium Limited; PackageDescription: 44-Pin Plastic Very Thin Quad Flat No-Lead Package, 7 x 7 x 1.0 mm Body, 0.5 mm Pitch (VQFN), 5.2 mm Exposed Pad; Supplier 1: Digi-Key; Supplier Part Number 1: ATMEGA162-16MI-ND; Supplier 2: Mouser; Supplier Part Number 2: 556-ATMEGA162-16MI; Code_JEDEC: MO-220-VKKD-1; ComponentLink1Description: Manufacturer Link; ComponentLink1URL: http://www.atmel.com/products/avr/default.asp?; ComponentLink2Description: ATmega162 (V)  Datasheet; ComponentLink2URL: http://www.atmel.com/dyn/resources/prod_documents/doc2513.pdf; ComponentLink3Description: ATmega162 (V) Summary; ComponentLink3URL: http://www.atmel.com/dyn/resources/prod_documents/2513S.pdf; ComponentLink4Description: Atmel.com Home; ComponentLink4URL: http://www.atmel.com
footprint 44M1_N (QFN, 44-Leads, Body 7x7mm, Pitch 0.5mm, IPC Medium Density)
footprint 44M1_L (QFN, 44-Leads, Body 7x7mm, Pitch 0.5mm, IPC High Density)
footprint 44M1_M (QFN, 44-Leads, Body 7x7mm, Pitch 0.5mm, IPC Low Density)
pins: 1 PB5 (MOSI) (io), 2 PB6 (MISO) (io), 3 PB7 (SCK) (io), 4 ~{RESET} (in), 5 PD0 (RXD0) (io), 6 VCC (power), 7 PD1 (TXD0) (io), 8 PD2 (INT0/XCK1) (io), 9 PD3 (INT1/ICP3) (io), 10 PD4 (TOSC1/XCK0/OC3A) (io), 11 PD5 (OC1A/TOSC2) (io), 12 PD6 (~{WR}) (io), 13 PD7 (~{RD}) (io), 14 XTAL2, 15 XTAL1, 16 GND (power), 17 VCC (power), 18 PC0 (A8/PCINT8) (io), 19 PC1 (A9/PCINT9) (io), 20 PC2 (A10/PCINT10) (io), 21 PC3 (A11/PCINT11) (io), 22 PC4 (TCK/A12/PCINT12) (io), 23 PC5 (A13/TMS/PCINT13) (io), 24 PC6 (A14/TDO/PCINT14) (io), 25 PC7 (A15/TDI/PCINT15) (io), 26 PE2 (OC1B) (io), 27 PE1 (ALE) (io), 28 GND (power), 29 PE0 (ICP1/INT2) (io), 30 PA7 (AD7/PCINT7) (io), 31 PA6 (AD6/PCINT6) (io), 32 PA5 (AD5/PCINT5) (io), 33 PA4 (AD4/PCINT4) (io), 34 PA3 (AD3/PCINT3) (io), 35 PA2 (AD2/PCINT2) (io), 36 PA1 (AD1/PCINT1) (io), 37 PA0 (AD0/PCINT0) (io), 38 VCC (power), 39 GND (power), 40 PB0 (OC0/T0) (io), 41 PB1 (OC2/T1) (io), 42 PB2 (RXD1/AIN0) (io), 43 PB3 (TXD1/AIN1) (io), 44 PB4 (~{SS}/OC3B) (io), 45 Thermal Pad (power)

## ATmega162-16MU
designator U?
8-bit AVR Microcontroller, 16KB Flash, 512 Bytes EEPROM, 1KB SRAM, 44-pin VQFN, Industrial Grade (-40°C to 85°C); Published: 1-Apr-2010; DatasheetVersion: revK, Jul-2009; PackageVersion: revH, Sep-2008; PackageReference: 44M1; Publisher: Altium Limited; PackageDescription: 44-Pin Plastic Very Thin Quad Flat No-Lead Package, 7 x 7 x 1.0 mm Body, 0.5 mm Pitch (VQFN), 5.2 mm Exposed Pad; Supplier 1: Digi-Key; Supplier Part Number 1: ATMEGA162-16MU-ND; Supplier 2: Farnell; Supplier Part Number 2: 1748511; Supplier 3: Mouser; Supplier Part Number 3: 556-ATMEGA162-16MU; Code_JEDEC: MO-220-VKKD-1; ComponentLink1Description: Manufacturer Link; ComponentLink1URL: http://www.atmel.com/products/avr/default.asp?; ComponentLink2Description: ATmega162 (V)  Datasheet; ComponentLink2URL: http://www.atmel.com/dyn/resources/prod_documents/doc2513.pdf; ComponentLink3Description: ATmega162 (V) Summary; ComponentLink3URL: http://www.atmel.com/dyn/resources/prod_documents/2513S.pdf; ComponentLink4Description: Atmel.com Home; ComponentLink4URL: http://www.atmel.com
footprint 44M1_N (QFN, 44-Leads, Body 7x7mm, Pitch 0.5mm, IPC Medium Density)
footprint 44M1_L (QFN, 44-Leads, Body 7x7mm, Pitch 0.5mm, IPC High Density)
footprint 44M1_M (QFN, 44-Leads, Body 7x7mm, Pitch 0.5mm, IPC Low Density)
pins: 1 PB5 (MOSI) (io), 2 PB6 (MISO) (io), 3 PB7 (SCK) (io), 4 ~{RESET} (in), 5 PD0 (RXD0) (io), 6 VCC (power), 7 PD1 (TXD0) (io), 8 PD2 (INT0/XCK1) (io), 9 PD3 (INT1/ICP3) (io), 10 PD4 (TOSC1/XCK0/OC3A) (io), 11 PD5 (OC1A/TOSC2) (io), 12 PD6 (~{WR}) (io), 13 PD7 (~{RD}) (io), 14 XTAL2, 15 XTAL1, 16 GND (power), 17 VCC (power), 18 PC0 (A8/PCINT8) (io), 19 PC1 (A9/PCINT9) (io), 20 PC2 (A10/PCINT10) (io), 21 PC3 (A11/PCINT11) (io), 22 PC4 (TCK/A12/PCINT12) (io), 23 PC5 (A13/TMS/PCINT13) (io), 24 PC6 (A14/TDO/PCINT14) (io), 25 PC7 (A15/TDI/PCINT15) (io), 26 PE2 (OC1B) (io), 27 PE1 (ALE) (io), 28 GND (power), 29 PE0 (ICP1/INT2) (io), 30 PA7 (AD7/PCINT7) (io), 31 PA6 (AD6/PCINT6) (io), 32 PA5 (AD5/PCINT5) (io), 33 PA4 (AD4/PCINT4) (io), 34 PA3 (AD3/PCINT3) (io), 35 PA2 (AD2/PCINT2) (io), 36 PA1 (AD1/PCINT1) (io), 37 PA0 (AD0/PCINT0) (io), 38 VCC (power), 39 GND (power), 40 PB0 (OC0/T0) (io), 41 PB1 (OC2/T1) (io), 42 PB2 (RXD1/AIN0) (io), 43 PB3 (TXD1/AIN1) (io), 44 PB4 (~{SS}/OC3B) (io), 45 Thermal Pad (power)

## ATmega162-16PI
designator U?
8-bit AVR Microcontroller, 16KB Flash, 512 Bytes EEPROM, 1KB SRAM, 40-pin PDIP, Industrial Grade (-40°C to 85°C); Published: 1-Apr-2010; DatasheetVersion: revK, Jul-2009; PackageVersion: revB, Sep-2001; PackageReference: 40P6; Publisher: Altium Limited; PackageDescription: 40-lead (0.600"/15.24mm Wide) Plastic Dual Inline Package (PDIP); Supplier 1: Digi-Key; Supplier Part Number 1: ATMEGA162-16PI-ND; Supplier 2: Mouser; Supplier Part Number 2: 556-ATMEGA162-16PI; Code_JEDEC: MS-011-AC; ComponentLink1Description: Manufacturer Link; ComponentLink1URL: http://www.atmel.com/products/avr/default.asp?; ComponentLink2Description: ATmega162 (V)  Datasheet; ComponentLink2URL: http://www.atmel.com/dyn/resources/prod_documents/doc2513.pdf; ComponentLink3Description: ATmega162 (V) Summary; ComponentLink3URL: http://www.atmel.com/dyn/resources/prod_documents/2513S.pdf; ComponentLink4Description: Atmel.com Home; ComponentLink4URL: http://www.atmel.com
footprint 40P6 (DIP, 40-Leads, Row Spacing 15.24mm, Pitch 2.54mm, Body 52.2x13.95mm)
pins: 1 PB0 (XCK/T0) (io), 2 PB1 (T1) (io), 3 PB2 (INT2/AIN0) (io), 4 PB3 (OC0/AIN1) (io), 5 PB4 (~{SS}) (io), 6 PB5 (MOSI) (io), 7 PB6 (MISO) (io), 8 PB7 (SCK) (io), 9 ~{RESET} (in), 10 VCC (power), 11 GND (power), 12 XTAL2, 13 XTAL1, 14 PD0 (RXD) (io), 15 PD1 (TXD) (io), 16 PD2 (INT0) (io), 17 PD3 (INT1) (io), 18 PD4 (OC1B) (io), 19 PD5 (OC1A) (io), 20 PD6 (ICP1) (io), 21 PD7 (OC2) (io), 22 PC0 (SCL) (io), 23 PC1 (SDA) (io), 24 PC2 (TCK) (io), 25 PC3 (TMS) (io), 26 PC4 (TDO) (io), 27 PC5 (TDI) (io), 28 PC6 (TOSC1) (io), 29 PC7 (TOSC2) (io), 30 AVCC (power), 31 GND (power), 32 AREF (power), 33 PA7 (ADC7) (io), 34 PA6 (ADC6) (io), 35 PA5 (ADC5) (io), 36 PA4 (ADC4) (io), 37 PA3 (ADC3) (io), 38 PA2 (ADC2) (io), 39 PA1 (ADC1) (io), 40 PA0 (ADC0) (io)

## ATmega162-16PU
designator U?
8-bit AVR Microcontroller, 16KB Flash, 512 Bytes EEPROM, 1KB SRAM, 40-pin PDIP, Industrial Grade (-40°C to 85°C); Published: 1-Apr-2010; DatasheetVersion: revK, Jul-2009; PackageVersion: revB, Sep-2001; PackageReference: 40P6; Publisher: Altium Limited; PackageDescription: 40-lead (0.600"/15.24mm Wide) Plastic Dual Inline Package (PDIP); Supplier 1: Digi-Key; Supplier Part Number 1: ATMEGA162-16PU-ND; Supplier 2: Farnell; Supplier Part Number 2: 9171169; Supplier 3: Mouser; Supplier Part Number 3: 556-ATMEGA162-16PU; Code_JEDEC: MS-011-AC; ComponentLink1Description: Manufacturer Link; ComponentLink1URL: http://www.atmel.com/products/avr/default.asp?; ComponentLink2Description: ATmega162 (V)  Datasheet; ComponentLink2URL: http://www.atmel.com/dyn/resources/prod_documents/doc2513.pdf; ComponentLink3Description: ATmega162 (V) Summary; ComponentLink3URL: http://www.atmel.com/dyn/resources/prod_documents/2513S.pdf; ComponentLink4Description: Atmel.com Home; ComponentLink4URL: http://www.atmel.com
footprint 40P6 (DIP, 40-Leads, Row Spacing 15.24mm, Pitch 2.54mm, Body 52.2x13.95mm)
pins: 1 PB0 (XCK/T0) (io), 2 PB1 (T1) (io), 3 PB2 (INT2/AIN0) (io), 4 PB3 (OC0/AIN1) (io), 5 PB4 (~{SS}) (io), 6 PB5 (MOSI) (io), 7 PB6 (MISO) (io), 8 PB7 (SCK) (io), 9 ~{RESET} (in), 10 VCC (power), 11 GND (power), 12 XTAL2, 13 XTAL1, 14 PD0 (RXD) (io), 15 PD1 (TXD) (io), 16 PD2 (INT0) (io), 17 PD3 (INT1) (io), 18 PD4 (OC1B) (io), 19 PD5 (OC1A) (io), 20 PD6 (ICP1) (io), 21 PD7 (OC2) (io), 22 PC0 (SCL) (io), 23 PC1 (SDA) (io), 24 PC2 (TCK) (io), 25 PC3 (TMS) (io), 26 PC4 (TDO) (io), 27 PC5 (TDI) (io), 28 PC6 (TOSC1) (io), 29 PC7 (TOSC2) (io), 30 AVCC (power), 31 GND (power), 32 AREF (power), 33 PA7 (ADC7) (io), 34 PA6 (ADC6) (io), 35 PA5 (ADC5) (io), 36 PA4 (ADC4) (io), 37 PA3 (ADC3) (io), 38 PA2 (ADC2) (io), 39 PA1 (ADC1) (io), 40 PA0 (ADC0) (io)

## ATmega162V-8AI
designator U?
8-bit AVR Microcontroller, 16KB Flash, 512 Bytes EEPROM, 1KB SRAM, 44-pin TQFP, Industrial Grade (-40°C to 85°C); Published: 1-Apr-2010; DatasheetVersion: revK, Jul-2009; PackageVersion: rev.B, Oct-2001; PackageReference: 44A; Publisher: Altium Limited; PackageDescription: 44-Pin Plastic Thin Profile Quad Flat Pack, 10 x 10 x 1.0 mm Body, 0.8 mm Pitch (TQFP); Supplier 1: Digi-Key; Supplier Part Number 1: ATMEGA162V-8AI-ND; Supplier 2: Mouser; Supplier Part Number 2: 556-ATMEGA162V8AI; ComponentLink1Description: Manufacturer Link; ComponentLink1URL: http://www.atmel.com/products/avr/default.asp?; ComponentLink2Description: ATmega162 (V)  Datasheet; ComponentLink2URL: http://www.atmel.com/dyn/resources/prod_documents/doc2513.pdf; ComponentLink3Description: ATmega162 (V) Summary; ComponentLink3URL: http://www.atmel.com/dyn/resources/prod_documents/2513S.pdf; ComponentLink4Description: Atmel.com Home; ComponentLink4URL: http://www.atmel.com
footprint 44A_N (Thin QFP, 44-Leads, Body 10x10mm, Pitch 0.8mm, IPC Medium Density)
footprint 44A_L (Thin QFP, 44-Leads, Body 10x10mm, Pitch 0.8mm, IPC High Density)
footprint 44A_M (Thin QFP, 44-Leads, Body 10x10mm, Pitch 0.8mm, IPC Low Density)
pins: 1 PB5 (MOSI) (io), 2 PB6 (MISO) (io), 3 PB7 (SCK) (io), 4 ~{RESET} (in), 5 PD0 (RXD0) (io), 6 VCC (power), 7 PD1 (TXD0) (io), 8 PD2 (INT0/XCK1) (io), 9 PD3 (INT1/ICP3) (io), 10 PD4 (TOSC1/XCK0/OC3A) (io), 11 PD5 (OC1A/TOSC2) (io), 12 PD6 (~{WR}) (io), 13 PD7 (~{RD}) (io), 14 XTAL2, 15 XTAL1, 16 GND (power), 17 VCC (power), 18 PC0 (A8/PCINT8) (io), 19 PC1 (A9/PCINT9) (io), 20 PC2 (A10/PCINT10) (io), 21 PC3 (A11/PCINT11) (io), 22 PC4 (TCK/A12/PCINT12) (io), 23 PC5 (A13/TMS/PCINT13) (io), 24 PC6 (A14/TDO/PCINT14) (io), 25 PC7 (A15/TDI/PCINT15) (io), 26 PE2 (OC1B) (io), 27 PE1 (ALE) (io), 28 GND (power), 29 PE0 (ICP1/INT2) (io), 30 PA7 (AD7/PCINT7) (io), 31 PA6 (AD6/PCINT6) (io), 32 PA5 (AD5/PCINT5) (io), 33 PA4 (AD4/PCINT4) (io), 34 PA3 (AD3/PCINT3) (io), 35 PA2 (AD2/PCINT2) (io), 36 PA1 (AD1/PCINT1) (io), 37 PA0 (AD0/PCINT0) (io), 38 VCC (power), 39 GND (power), 40 PB0 (OC0/T0) (io), 41 PB1 (OC2/T1) (io), 42 PB2 (RXD1/AIN0) (io), 43 PB3 (TXD1/AIN1) (io), 44 PB4 (~{SS}/OC3B) (io)

## ATmega162V-8AU
designator U?
8-bit AVR Microcontroller, 16KB Flash, 512 Bytes EEPROM, 1KB SRAM, 44-pin TQFP, Industrial Grade (-40°C to 85°C); Published: 1-Apr-2010; DatasheetVersion: revK, Jul-2009; PackageVersion: rev.B, Oct-2001; PackageReference: 44A; Publisher: Altium Limited; PackageDescription: 44-Pin Plastic Thin Profile Quad Flat Pack, 10 x 10 x 1.0 mm Body, 0.8 mm Pitch (TQFP); Supplier 1: Digi-Key; Supplier Part Number 1: ATMEGA162V-8AU-ND; Supplier 2: Farnell; Supplier Part Number 2: 9171177; Supplier 3: Farnell; Supplier Part Number 3: 1528424; Supplier 4: Mouser; Supplier Part Number 4: 556-ATMEGA162V8AU; ComponentLink1Description: Manufacturer Link; ComponentLink1URL: http://www.atmel.com/products/avr/default.asp?; ComponentLink2Description: ATmega162 (V)  Datasheet; ComponentLink2URL: http://www.atmel.com/dyn/resources/prod_documents/doc2513.pdf; ComponentLink3Description: ATmega162 (V) Summary; ComponentLink3URL: http://www.atmel.com/dyn/resources/prod_documents/2513S.pdf; ComponentLink4Description: Atmel.com Home; ComponentLink4URL: http://www.atmel.com
footprint 44A_N (Thin QFP, 44-Leads, Body 10x10mm, Pitch 0.8mm, IPC Medium Density)
footprint 44A_L (Thin QFP, 44-Leads, Body 10x10mm, Pitch 0.8mm, IPC High Density)
footprint 44A_M (Thin QFP, 44-Leads, Body 10x10mm, Pitch 0.8mm, IPC Low Density)
pins: 1 PB5 (MOSI) (io), 2 PB6 (MISO) (io), 3 PB7 (SCK) (io), 4 ~{RESET} (in), 5 PD0 (RXD0) (io), 6 VCC (power), 7 PD1 (TXD0) (io), 8 PD2 (INT0/XCK1) (io), 9 PD3 (INT1/ICP3) (io), 10 PD4 (TOSC1/XCK0/OC3A) (io), 11 PD5 (OC1A/TOSC2) (io), 12 PD6 (~{WR}) (io), 13 PD7 (~{RD}) (io), 14 XTAL2, 15 XTAL1, 16 GND (power), 17 VCC (power), 18 PC0 (A8/PCINT8) (io), 19 PC1 (A9/PCINT9) (io), 20 PC2 (A10/PCINT10) (io), 21 PC3 (A11/PCINT11) (io), 22 PC4 (TCK/A12/PCINT12) (io), 23 PC5 (A13/TMS/PCINT13) (io), 24 PC6 (A14/TDO/PCINT14) (io), 25 PC7 (A15/TDI/PCINT15) (io), 26 PE2 (OC1B) (io), 27 PE1 (ALE) (io), 28 GND (power), 29 PE0 (ICP1/INT2) (io), 30 PA7 (AD7/PCINT7) (io), 31 PA6 (AD6/PCINT6) (io), 32 PA5 (AD5/PCINT5) (io), 33 PA4 (AD4/PCINT4) (io), 34 PA3 (AD3/PCINT3) (io), 35 PA2 (AD2/PCINT2) (io), 36 PA1 (AD1/PCINT1) (io), 37 PA0 (AD0/PCINT0) (io), 38 VCC (power), 39 GND (power), 40 PB0 (OC0/T0) (io), 41 PB1 (OC2/T1) (io), 42 PB2 (RXD1/AIN0) (io), 43 PB3 (TXD1/AIN1) (io), 44 PB4 (~{SS}/OC3B) (io)

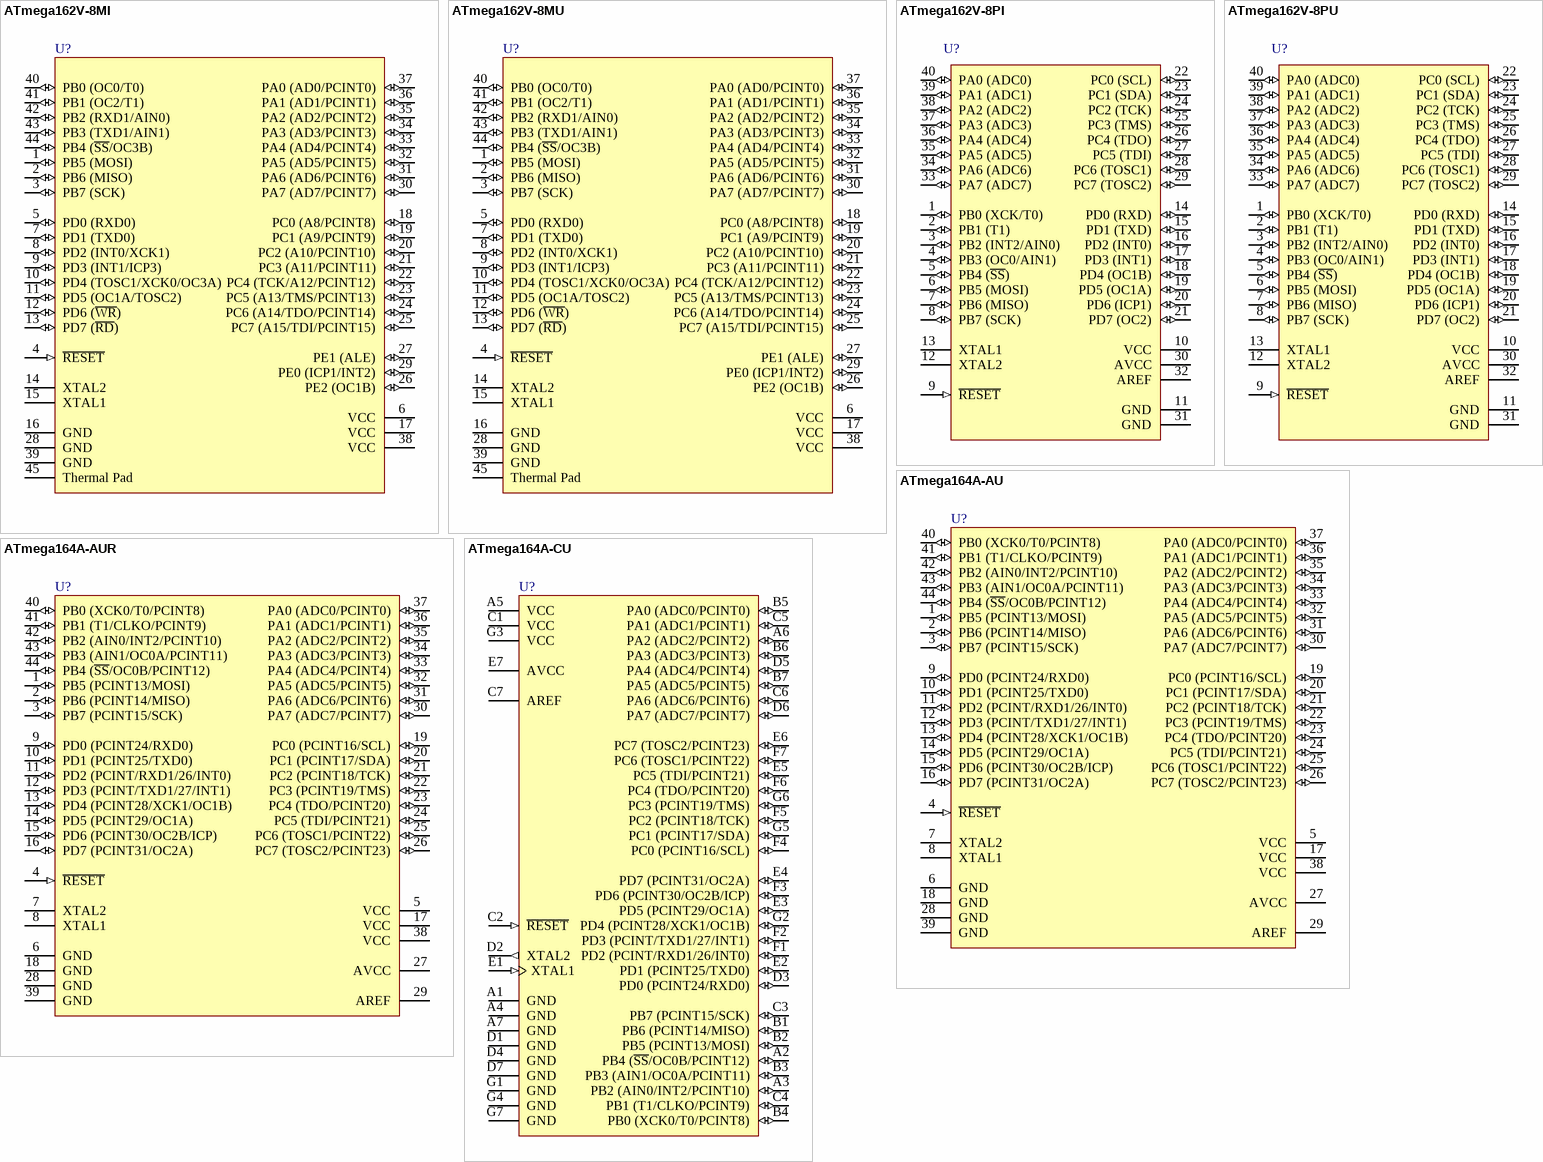
[diagram p12: symbols ATmega162V-8MI to ATmega164A-CU]

## ATmega162V-8MI
designator U?
8-bit AVR Microcontroller, 16KB Flash, 512 Bytes EEPROM, 1KB SRAM, 44-pin VQFN, Industrial Grade (-40°C to 85°C); Published: 1-Apr-2010; DatasheetVersion: revK, Jul-2009; PackageVersion: revH, Sep-2008; PackageReference: 44M1; Publisher: Altium Limited; PackageDescription: 44-Pin Plastic Very Thin Quad Flat No-Lead Package, 7 x 7 x 1.0 mm Body, 0.5 mm Pitch (VQFN), 5.2 mm Exposed Pad; Supplier 1: Digi-Key; Supplier Part Number 1: ATMEGA162V-8MI-ND; Supplier 2: Mouser; Supplier Part Number 2: 556-ATMEGA162V8MI; Code_JEDEC: MO-220-VKKD-1; ComponentLink1Description: Manufacturer Link; ComponentLink1URL: http://www.atmel.com/products/avr/default.asp?; ComponentLink2Description: ATmega162 (V)  Datasheet; ComponentLink2URL: http://www.atmel.com/dyn/resources/prod_documents/doc2513.pdf; ComponentLink3Description: ATmega162 (V) Summary; ComponentLink3URL: http://www.atmel.com/dyn/resources/prod_documents/2513S.pdf; ComponentLink4Description: Atmel.com Home; ComponentLink4URL: http://www.atmel.com
footprint 44M1_N (QFN, 44-Leads, Body 7x7mm, Pitch 0.5mm, IPC Medium Density)
footprint 44M1_L (QFN, 44-Leads, Body 7x7mm, Pitch 0.5mm, IPC High Density)
footprint 44M1_M (QFN, 44-Leads, Body 7x7mm, Pitch 0.5mm, IPC Low Density)
pins: 1 PB5 (MOSI) (io), 2 PB6 (MISO) (io), 3 PB7 (SCK) (io), 4 ~{RESET} (in), 5 PD0 (RXD0) (io), 6 VCC (power), 7 PD1 (TXD0) (io), 8 PD2 (INT0/XCK1) (io), 9 PD3 (INT1/ICP3) (io), 10 PD4 (TOSC1/XCK0/OC3A) (io), 11 PD5 (OC1A/TOSC2) (io), 12 PD6 (~{WR}) (io), 13 PD7 (~{RD}) (io), 14 XTAL2, 15 XTAL1, 16 GND (power), 17 VCC (power), 18 PC0 (A8/PCINT8) (io), 19 PC1 (A9/PCINT9) (io), 20 PC2 (A10/PCINT10) (io), 21 PC3 (A11/PCINT11) (io), 22 PC4 (TCK/A12/PCINT12) (io), 23 PC5 (A13/TMS/PCINT13) (io), 24 PC6 (A14/TDO/PCINT14) (io), 25 PC7 (A15/TDI/PCINT15) (io), 26 PE2 (OC1B) (io), 27 PE1 (ALE) (io), 28 GND (power), 29 PE0 (ICP1/INT2) (io), 30 PA7 (AD7/PCINT7) (io), 31 PA6 (AD6/PCINT6) (io), 32 PA5 (AD5/PCINT5) (io), 33 PA4 (AD4/PCINT4) (io), 34 PA3 (AD3/PCINT3) (io), 35 PA2 (AD2/PCINT2) (io), 36 PA1 (AD1/PCINT1) (io), 37 PA0 (AD0/PCINT0) (io), 38 VCC (power), 39 GND (power), 40 PB0 (OC0/T0) (io), 41 PB1 (OC2/T1) (io), 42 PB2 (RXD1/AIN0) (io), 43 PB3 (TXD1/AIN1) (io), 44 PB4 (~{SS}/OC3B) (io), 45 Thermal Pad (power)

## ATmega162V-8MU
designator U?
8-bit AVR Microcontroller, 16KB Flash, 512 Bytes EEPROM, 1KB SRAM, 44-pin VQFN, Industrial Grade (-40°C to 85°C); Published: 1-Apr-2010; DatasheetVersion: revK, Jul-2009; PackageVersion: revH, Sep-2008; PackageReference: 44M1; Publisher: Altium Limited; PackageDescription: 44-Pin Plastic Very Thin Quad Flat No-Lead Package, 7 x 7 x 1.0 mm Body, 0.5 mm Pitch (VQFN), 5.2 mm Exposed Pad; Supplier 1: Digi-Key; Supplier Part Number 1: ATMEGA162V-8MU-ND; Supplier 2: Farnell; Supplier Part Number 2: 1748512; Supplier 3: Mouser; Supplier Part Number 3: 556-ATMEGA162V8MU; Code_JEDEC: MO-220-VKKD-1; ComponentLink1Description: Manufacturer Link; ComponentLink1URL: http://www.atmel.com/products/avr/default.asp?; ComponentLink2Description: ATmega162 (V)  Datasheet; ComponentLink2URL: http://www.atmel.com/dyn/resources/prod_documents/doc2513.pdf; ComponentLink3Description: ATmega162 (V) Summary; ComponentLink3URL: http://www.atmel.com/dyn/resources/prod_documents/2513S.pdf; ComponentLink4Description: Atmel.com Home; ComponentLink4URL: http://www.atmel.com
footprint 44M1_N (QFN, 44-Leads, Body 7x7mm, Pitch 0.5mm, IPC Medium Density)
footprint 44M1_L (QFN, 44-Leads, Body 7x7mm, Pitch 0.5mm, IPC High Density)
footprint 44M1_M (QFN, 44-Leads, Body 7x7mm, Pitch 0.5mm, IPC Low Density)
pins: 1 PB5 (MOSI) (io), 2 PB6 (MISO) (io), 3 PB7 (SCK) (io), 4 ~{RESET} (in), 5 PD0 (RXD0) (io), 6 VCC (power), 7 PD1 (TXD0) (io), 8 PD2 (INT0/XCK1) (io), 9 PD3 (INT1/ICP3) (io), 10 PD4 (TOSC1/XCK0/OC3A) (io), 11 PD5 (OC1A/TOSC2) (io), 12 PD6 (~{WR}) (io), 13 PD7 (~{RD}) (io), 14 XTAL2, 15 XTAL1, 16 GND (power), 17 VCC (power), 18 PC0 (A8/PCINT8) (io), 19 PC1 (A9/PCINT9) (io), 20 PC2 (A10/PCINT10) (io), 21 PC3 (A11/PCINT11) (io), 22 PC4 (TCK/A12/PCINT12) (io), 23 PC5 (A13/TMS/PCINT13) (io), 24 PC6 (A14/TDO/PCINT14) (io), 25 PC7 (A15/TDI/PCINT15) (io), 26 PE2 (OC1B) (io), 27 PE1 (ALE) (io), 28 GND (power), 29 PE0 (ICP1/INT2) (io), 30 PA7 (AD7/PCINT7) (io), 31 PA6 (AD6/PCINT6) (io), 32 PA5 (AD5/PCINT5) (io), 33 PA4 (AD4/PCINT4) (io), 34 PA3 (AD3/PCINT3) (io), 35 PA2 (AD2/PCINT2) (io), 36 PA1 (AD1/PCINT1) (io), 37 PA0 (AD0/PCINT0) (io), 38 VCC (power), 39 GND (power), 40 PB0 (OC0/T0) (io), 41 PB1 (OC2/T1) (io), 42 PB2 (RXD1/AIN0) (io), 43 PB3 (TXD1/AIN1) (io), 44 PB4 (~{SS}/OC3B) (io), 45 Thermal Pad (power)

## ATmega162V-8PI
designator U?
8-bit AVR Microcontroller, 16KB Flash, 512 Bytes EEPROM, 1KB SRAM, 40-pin PDIP, Industrial Grade (-40°C to 85°C); Published: 1-Apr-2010; DatasheetVersion: revK, Jul-2009; PackageVersion: revB, Sep-2001; PackageReference: 40P6; Publisher: Altium Limited; PackageDescription: 40-lead (0.600"/15.24mm Wide) Plastic Dual Inline Package (PDIP); Supplier 1: Digi-Key; Supplier Part Number 1: ATMEGA162V-8PI-ND; Supplier 2: Mouser; Supplier Part Number 2: 556-ATMEGA162V8PI; Code_JEDEC: MS-011-AC; ComponentLink1Description: Manufacturer Link; ComponentLink1URL: http://www.atmel.com/products/avr/default.asp?; ComponentLink2Description: ATmega162 (V)  Datasheet; ComponentLink2URL: http://www.atmel.com/dyn/resources/prod_documents/doc2513.pdf; ComponentLink3Description: ATmega162 (V) Summary; ComponentLink3URL: http://www.atmel.com/dyn/resources/prod_documents/2513S.pdf; ComponentLink4Description: Atmel.com Home; ComponentLink4URL: http://www.atmel.com
footprint 40P6 (DIP, 40-Leads, Row Spacing 15.24mm, Pitch 2.54mm, Body 52.2x13.95mm)
pins: 1 PB0 (XCK/T0) (io), 2 PB1 (T1) (io), 3 PB2 (INT2/AIN0) (io), 4 PB3 (OC0/AIN1) (io), 5 PB4 (~{SS}) (io), 6 PB5 (MOSI) (io), 7 PB6 (MISO) (io), 8 PB7 (SCK) (io), 9 ~{RESET} (in), 10 VCC (power), 11 GND (power), 12 XTAL2, 13 XTAL1, 14 PD0 (RXD) (io), 15 PD1 (TXD) (io), 16 PD2 (INT0) (io), 17 PD3 (INT1) (io), 18 PD4 (OC1B) (io), 19 PD5 (OC1A) (io), 20 PD6 (ICP1) (io), 21 PD7 (OC2) (io), 22 PC0 (SCL) (io), 23 PC1 (SDA) (io), 24 PC2 (TCK) (io), 25 PC3 (TMS) (io), 26 PC4 (TDO) (io), 27 PC5 (TDI) (io), 28 PC6 (TOSC1) (io), 29 PC7 (TOSC2) (io), 30 AVCC (power), 31 GND (power), 32 AREF (power), 33 PA7 (ADC7) (io), 34 PA6 (ADC6) (io), 35 PA5 (ADC5) (io), 36 PA4 (ADC4) (io), 37 PA3 (ADC3) (io), 38 PA2 (ADC2) (io), 39 PA1 (ADC1) (io), 40 PA0 (ADC0) (io)

## ATmega162V-8PU
designator U?
8-bit AVR Microcontroller, 16KB Flash, 512 Bytes EEPROM, 1KB SRAM, 40-pin PDIP, Industrial Grade (-40°C to 85°C); Published: 1-Apr-2010; DatasheetVersion: revK, Jul-2009; PackageVersion: revB, Sep-2001; PackageReference: 40P6; Publisher: Altium Limited; PackageDescription: 40-lead (0.600"/15.24mm Wide) Plastic Dual Inline Package (PDIP); Supplier 1: Digi-Key; Supplier Part Number 1: ATMEGA162V-8PU-ND; Supplier 2: Farnell; Supplier Part Number 2: 9171185; Supplier 3: Mouser; Supplier Part Number 3: 556-ATMEGA162V8PU; Code_JEDEC: MS-011-AC; ComponentLink1Description: Manufacturer Link; ComponentLink1URL: http://www.atmel.com/products/avr/default.asp?; ComponentLink2Description: ATmega162 (V)  Datasheet; ComponentLink2URL: http://www.atmel.com/dyn/resources/prod_documents/doc2513.pdf; ComponentLink3Description: ATmega162 (V) Summary; ComponentLink3URL: http://www.atmel.com/dyn/resources/prod_documents/2513S.pdf; ComponentLink4Description: Atmel.com Home; ComponentLink4URL: http://www.atmel.com
footprint 40P6 (DIP, 40-Leads, Row Spacing 15.24mm, Pitch 2.54mm, Body 52.2x13.95mm)
pins: 1 PB0 (XCK/T0) (io), 2 PB1 (T1) (io), 3 PB2 (INT2/AIN0) (io), 4 PB3 (OC0/AIN1) (io), 5 PB4 (~{SS}) (io), 6 PB5 (MOSI) (io), 7 PB6 (MISO) (io), 8 PB7 (SCK) (io), 9 ~{RESET} (in), 10 VCC (power), 11 GND (power), 12 XTAL2, 13 XTAL1, 14 PD0 (RXD) (io), 15 PD1 (TXD) (io), 16 PD2 (INT0) (io), 17 PD3 (INT1) (io), 18 PD4 (OC1B) (io), 19 PD5 (OC1A) (io), 20 PD6 (ICP1) (io), 21 PD7 (OC2) (io), 22 PC0 (SCL) (io), 23 PC1 (SDA) (io), 24 PC2 (TCK) (io), 25 PC3 (TMS) (io), 26 PC4 (TDO) (io), 27 PC5 (TDI) (io), 28 PC6 (TOSC1) (io), 29 PC7 (TOSC2) (io), 30 AVCC (power), 31 GND (power), 32 AREF (power), 33 PA7 (ADC7) (io), 34 PA6 (ADC6) (io), 35 PA5 (ADC5) (io), 36 PA4 (ADC4) (io), 37 PA3 (ADC3) (io), 38 PA2 (ADC2) (io), 39 PA1 (ADC1) (io), 40 PA0 (ADC0) (io)

## ATmega164A-AU
designator U?
8-bit AVR Microcontroller, 16KB Flash, 512 Bytes EEPROM, 1KB SRAM, 44-pin TQFP, Industrial Grade (-40°C to 85°C); Published: 1-Apr-2010; DatasheetVersion: revA, Jan-2010; PackageVersion: rev.B, Oct-2001; PackageReference: 44A; Publisher: Altium Limited; PackageDescription: 44-Pin Plastic Thin Profile Quad Flat Pack, 10 x 10 x 1.0 mm Body, 0.8 mm Pitch (TQFP); Supplier 1: Digi-Key; Supplier Part Number 1: ATMEGA164A-AU-ND; Supplier 2: Mouser; Supplier Part Number 2: 556-ATMEGA164A-AU; ComponentLink1Description: Manufacturer Link; ComponentLink1URL: http://www.atmel.com/products/avr/default.asp?; ComponentLink2Description: ATmega164A/164PA/324A/324PA/644A/644PA/1284/1284P Datasheet; ComponentLink2URL: http://www.atmel.com/dyn/resources/prod_documents/doc8272.pdf; ComponentLink3Description: ATmega164A/164PA/324A/324PA/644A/644PA/1284/1284P Summary; ComponentLink3URL: http://www.atmel.com/dyn/resources/prod_documents/8272S.pdf; ComponentLink4Description: Atmel.com Home; ComponentLink4URL: http://www.atmel.com
footprint 44A_N (Thin QFP, 44-Leads, Body 10x10mm, Pitch 0.8mm, IPC Medium Density)
footprint 44A_L (Thin QFP, 44-Leads, Body 10x10mm, Pitch 0.8mm, IPC High Density)
footprint 44A_M (Thin QFP, 44-Leads, Body 10x10mm, Pitch 0.8mm, IPC Low Density)
pins: 1 PB5 (PCINT13/MOSI) (io), 2 PB6 (PCINT14/MISO) (io), 3 PB7 (PCINT15/SCK) (io), 4 ~{RESET} (in), 5 VCC (power), 6 GND (power), 7 XTAL2, 8 XTAL1, 9 PD0 (PCINT24/RXD0) (io), 10 PD1 (PCINT25/TXD0) (io), 11 PD2 (PCINT/RXD1/26/INT0) (io), 12 PD3 (PCINT/TXD1/27/INT1) (io), 13 PD4 (PCINT28/XCK1/OC1B) (io), 14 PD5 (PCINT29/OC1A) (io), 15 PD6 (PCINT30/OC2B/ICP) (io), 16 PD7 (PCINT31/OC2A) (io), 17 VCC (power), 18 GND (power), 19 PC0 (PCINT16/SCL) (io), 20 PC1 (PCINT17/SDA) (io), 21 PC2 (PCINT18/TCK) (io), 22 PC3 (PCINT19/TMS) (io), 23 PC4 (TDO/PCINT20) (io), 24 PC5 (TDI/PCINT21) (io), 25 PC6 (TOSC1/PCINT22) (io), 26 PC7 (TOSC2/PCINT23) (io), 27 AVCC (power), 28 GND (power), 29 AREF (power), 30 PA7 (ADC7/PCINT7) (io), 31 PA6 (ADC6/PCINT6) (io), 32 PA5 (ADC5/PCINT5) (io), 33 PA4 (ADC4/PCINT4) (io), 34 PA3 (ADC3/PCINT3) (io), 35 PA2 (ADC2/PCINT2) (io), 36 PA1 (ADC1/PCINT1) (io), 37 PA0 (ADC0/PCINT0) (io), 38 VCC (power), 39 GND (power), 40 PB0 (XCK0/T0/PCINT8) (io), 41 PB1 (T1/CLKO/PCINT9) (io), 42 PB2 (AIN0/INT2/PCINT10) (io), 43 PB3 (AIN1/OC0A/PCINT11) (io), 44 PB4 (~{SS}/OC0B/PCINT12) (io)